# EAGLE library part C151-EXP-EDGE-SOCKET (library 8Bit_Parts)
PIN HEADER
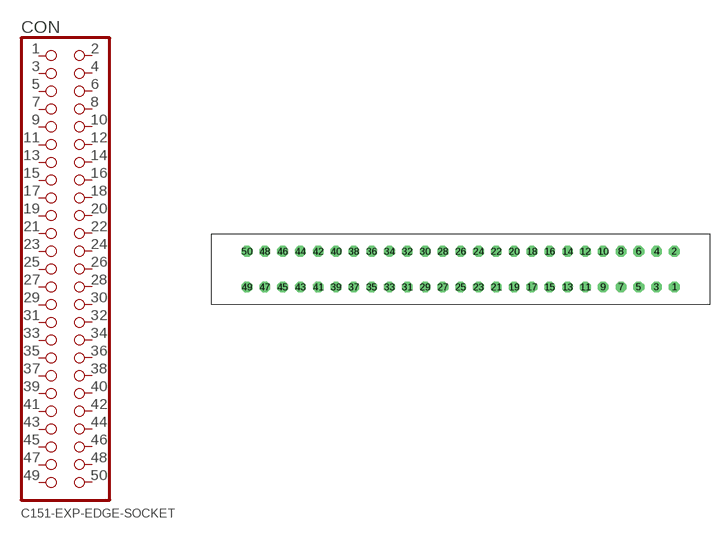
[diagram p2: symbol with the pads of 2X25; footprint 2X25]

Designator prefix CON

## C151-EXP-EDGE-SOCKET  [2X25]
1  1  pas
2  2  pas
3  3  pas
4  4  pas
5  5  pas
6  6  pas
7  7  pas
8  8  pas
9  9  pas
10  10  pas
11  11  pas
12  12  pas
13  13  pas
14  14  pas
15  15  pas
16  16  pas
17  17  pas
18  18  pas
19  19  pas
20  20  pas
21  21  pas
22  22  pas
23  23  pas
24  24  pas
25  25  pas
26  26  pas
27  27  pas
28  28  pas
29  29  pas
30  30  pas
31  31  pas
32  32  pas
33  33  pas
34  34  pas
35  35  pas
36  36  pas
37  37  pas
38  38  pas
39  39  pas
40  40  pas
41  41  pas
42  42  pas
43  43  pas
44  44  pas
45  45  pas
46  46  pas
47  47  pas
48  48  pas
49  49  pas
50  50  pas

## Footprint 2X25 (pad centres in mm)
PIN HEADER
drill 1.016 octagon: 1 30.48,1.27; 2 30.48,6.35; 3 27.94,1.27; 4 27.94,6.35; 5 25.4,1.27; 6 25.4,6.35; 7 22.86,1.27; 8 22.86,6.35; 9 20.32,1.27; 10 20.32,6.35; 11 17.78,1.27; 12 17.78,6.35; 13 15.24,1.27; 14 15.24,6.35; 15 12.7,1.27; 16 12.7,6.35; 17 10.16,1.27; 18 10.16,6.35; 19 7.62,1.27; 20 7.62,6.35; 21 5.08,1.27; 22 5.08,6.35; 23 2.54,1.27; 24 2.54,6.35; 25 0,1.27; 26 0,6.35; 27 -2.54,1.27; 28 -2.54,6.35; 29 -5.08,1.27; 30 -5.08,6.35; 31 -7.62,1.27; 32 -7.62,6.35; 33 -10.16,1.27; 34 -10.16,6.35; 35 -12.7,1.27; 36 -12.7,6.35; 37 -15.24,1.27; 38 -15.24,6.35; 39 -17.78,1.27; 40 -17.78,6.35; 41 -20.32,1.27; 42 -20.32,6.35; 43 -22.86,1.27; 44 -22.86,6.35; 45 -25.4,1.27; 46 -25.4,6.35; 47 -27.94,1.27; 48 -27.94,6.35; 49 -30.48,1.27; 50 -30.48,6.35